# EAGLE library part PIC24FJ128GB204 (library MIDI router parts)
PIC24FJ64GA00416-bit microcontroller Auto generated by make-symbol-device-package-bsdl.ulp Rev. 25 Source: PIC24FJ64GA004.bsd
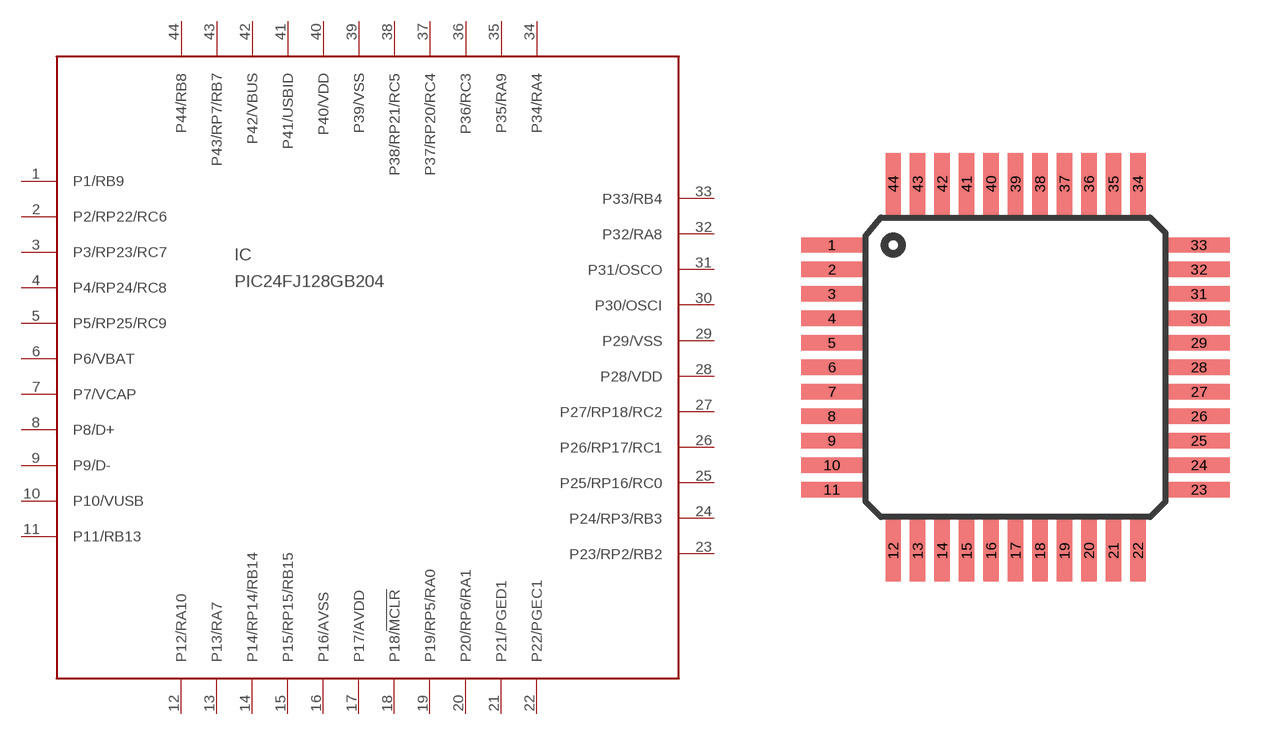
[diagram p1: symbol with the pads of TQFP44; footprint TQFP44]

Designator prefix IC

## PIC24FJ128GB204  [TQFP44]
1  P1/RB9
2  P2/RP22/RC6
3  P3/RP23/RC7
4  P4/RP24/RC8
5  P5/RP25/RC9
6  P6/VBAT  pas
7  P7/VCAP  pwr
8  P8/D+
9  P9/D-
10  P10/VUSB
11  P11/RB13
12  P12/RA10  in
13  P13/RA7  in
14  P14/RP14/RB14
15  P15/RP15/RB15
16  P16/AVSS  pwr
17  P17/AVDD  pwr
18  P18/!MCLR
19  P19/RP5/RA0
20  P20/RP6/RA1
21  P21/PGED1
22  P22/PGEC1
23  P23/RP2/RB2
24  P24/RP3/RB3
25  P25/RP16/RC0
26  P26/RP17/RC1
27  P27/RP18/RC2
28  P28/VDD  pwr
29  P29/VSS  pwr
30  P30/OSCI
31  P31/OSCO
32  P32/RA8  out
33  P33/RB4
34  P34/RA4
35  P35/RA9  in
36  P36/RC3
37  P37/RP20/RC4
38  P38/RP21/RC5
39  P39/VSS  pwr
40  P40/VDD  pwr
41  P41/USBID
42  P42/VBUS
43  P43/RP7/RB7
44  P44/RB8

## Footprint TQFP44 (pad centres in mm)
Thin Quad Flat Pack package type TQ
smd 2 x 0.5: 1 -6,4; 2 -6,3.2; 3 -6,2.4; 4 -6,1.6; 5 -6,0.8; 6 -6,0; 7 -6,-0.8; 8 -6,-1.6; 9 -6,-2.4; 10 -6,-3.2; 11 -6,-4; 23 6,-4; 24 6,-3.2; 25 6,-2.4; 26 6,-1.6; 27 6,-0.8; 28 6,0; 29 6,0.8; 30 6,1.6; 31 6,2.4; 32 6,3.2; 33 6,4
smd 0.5 x 2: 12 -4,-6; 13 -3.2,-6; 14 -2.4,-6; 15 -1.6,-6; 16 -0.8,-6; 17 0,-6; 18 0.8,-6; 19 1.6,-6; 20 2.4,-6; 21 3.2,-6; 22 4,-6; 34 4,6; 35 3.2,6; 36 2.4,6; 37 1.6,6; 38 0.8,6; 39 0,6; 40 -0.8,6; 41 -1.6,6; 42 -2.4,6; 43 -3.2,6; 44 -4,6